# EAGLE library part HIGHLY-PB-LED (library eagle)
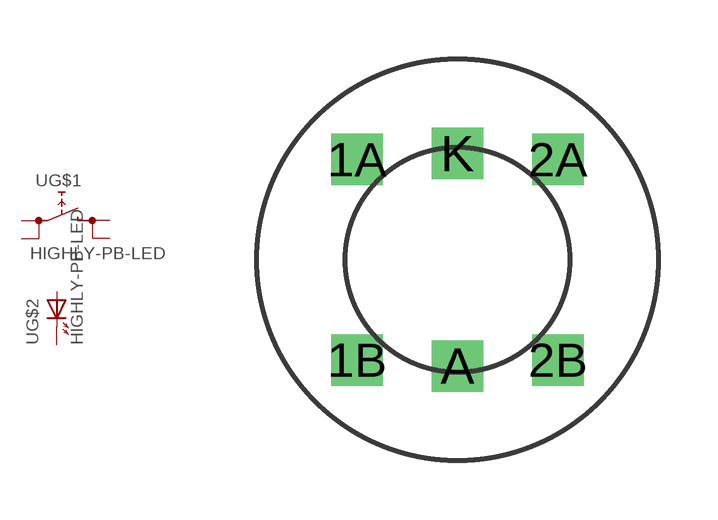
[diagram p0: symbol with the pads of HIGHLY-PUSHBUTTON; footprint HIGHLY-PUSHBUTTON]

Designator prefix -; gates G$1=SWITCH G$2=LED

## HIGHLY-PB-LED  [HIGHLY-PUSHBUTTON]
1A  G$1:0  pas
1B  G$1:0  pas
2A  G$1:1  pas
2B  G$1:1  pas
A  G$2:A  pas
K  G$2:K  pas

## Footprint HIGHLY-PUSHBUTTON (pad centres in mm)
drill 0.8 square: 1A -2.54,2.54; 1B -2.54,-2.54; 2A 2.54,2.54; 2B 2.54,-2.54; A 0,-2.692; K 0,2.692